# Altium schematic symbol library MTK_IC.SchLib: 1 symbol
Pins are listed as number, name and electrical type; pins without a type are passive.

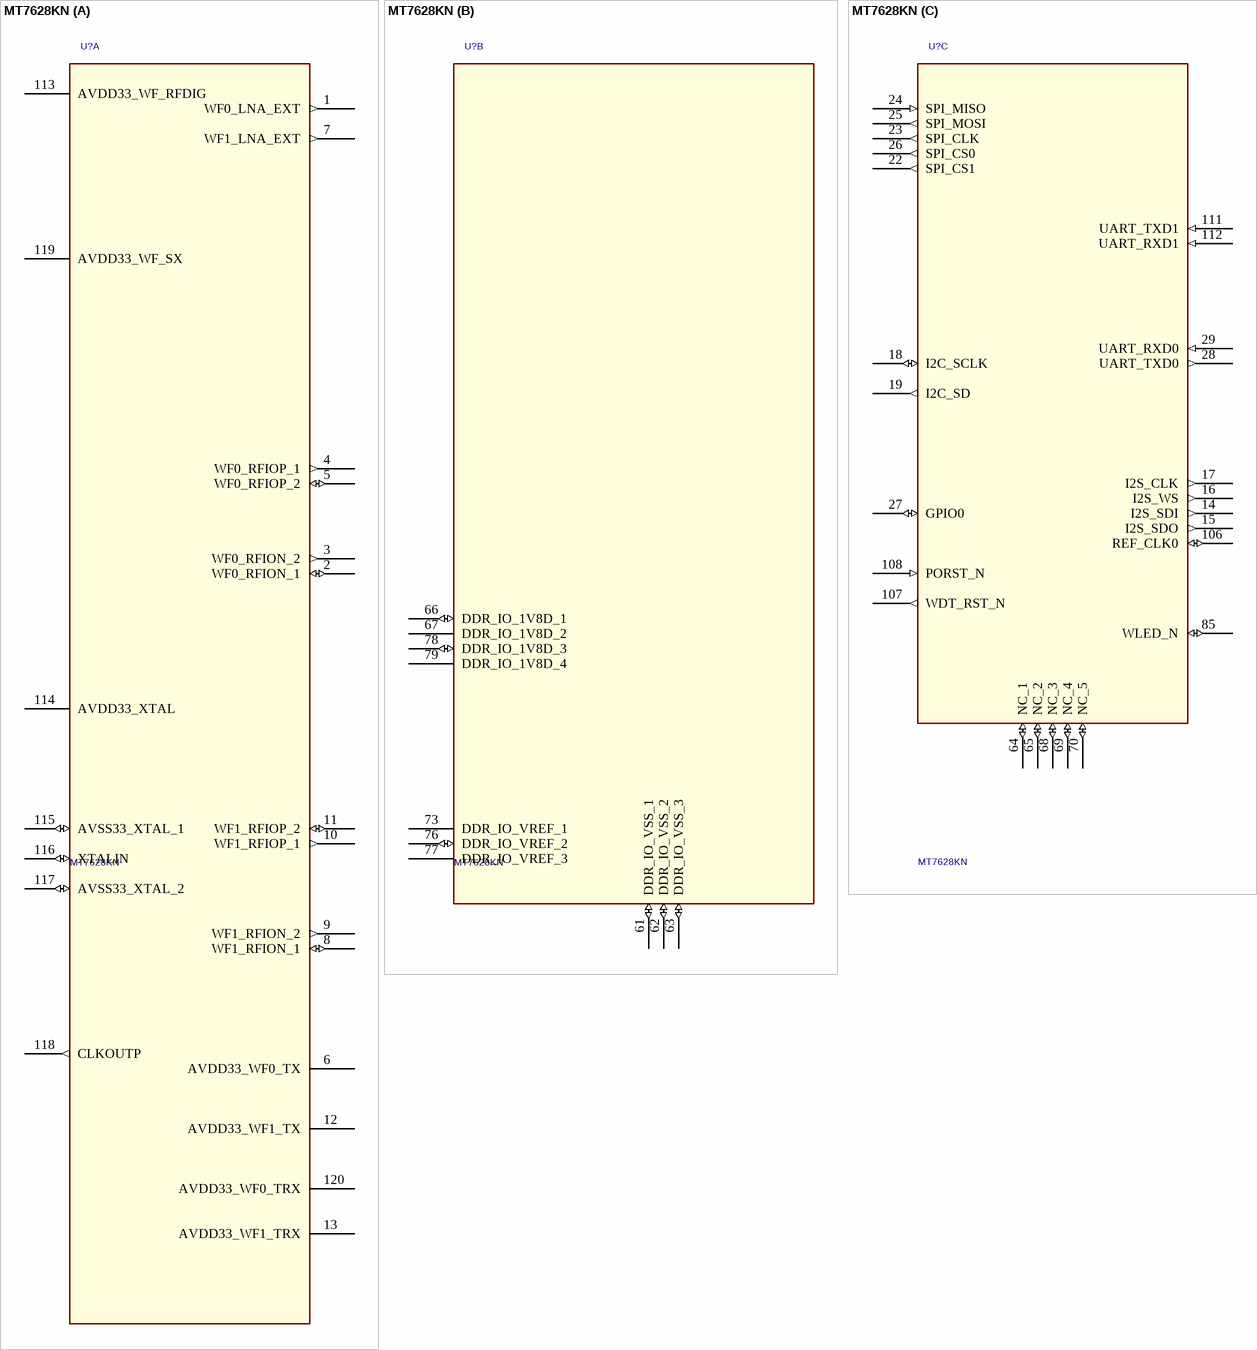
[diagram p0: symbol MT7628KN]

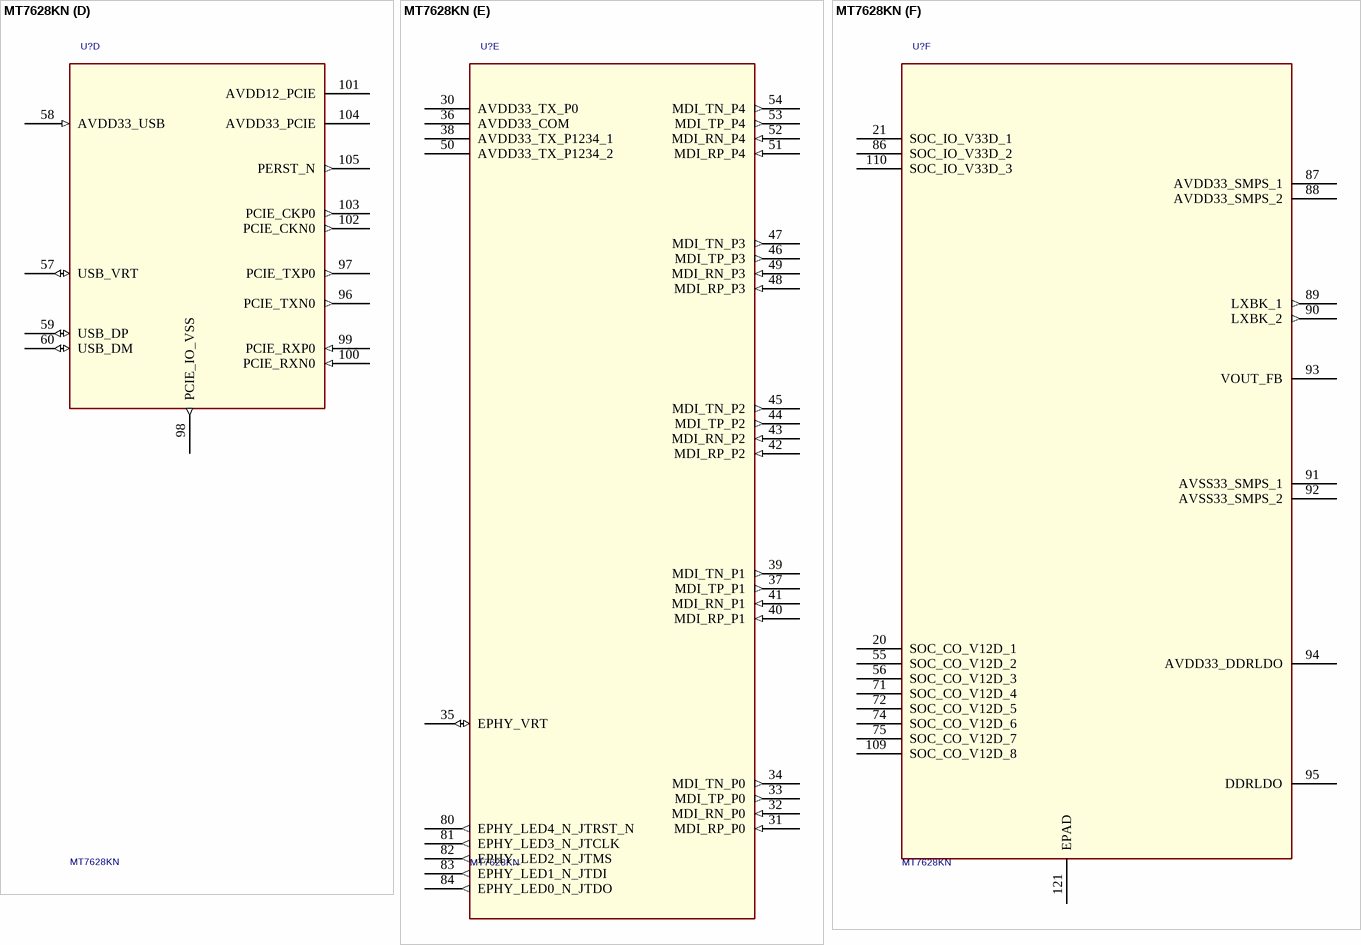
[diagram p1: symbol MT7628KN]

## MT7628KN
designator U?
footprint DR-QFN 10*10(PIN 120)
part A pins: 1 WF0_LNA_EXT (out), 2 WF0_RFION_1 (io), 3 WF0_RFION_2 (out), 4 WF0_RFIOP_1 (out), 5 WF0_RFIOP_2 (io), 6 AVDD33_WF0_TX (power), 7 WF1_LNA_EXT (out), 8 WF1_RFION_1 (io), 9 WF1_RFION_2 (out), 10 WF1_RFIOP_1 (out), 11 WF1_RFIOP_2 (io), 12 AVDD33_WF1_TX (power), 13 AVDD33_WF1_TRX (power), 113 AVDD33_WF_RFDIG (power), 114 AVDD33_XTAL (power), 115 AVSS33_XTAL_1 (io), 116 XTALIN (io), 117 AVSS33_XTAL_2 (io), 118 CLKOUTP (out), 119 AVDD33_WF_SX (power), 120 AVDD33_WF0_TRX (power)
part B pins: 61 DDR_IO_VSS_1 (io), 62 DDR_IO_VSS_2 (io), 63 DDR_IO_VSS_3 (io), 66 DDR_IO_1V8D_1 (io), 67 DDR_IO_1V8D_2 (power), 73 DDR_IO_VREF_1 (power), 76 DDR_IO_VREF_2 (io), 77 DDR_IO_VREF_3 (power), 78 DDR_IO_1V8D_3 (io), 79 DDR_IO_1V8D_4 (power)
part C pins: 14 I2S_SDI (out), 15 I2S_SDO (out), 16 I2S_WS (out), 17 I2S_CLK (out), 18 I2C_SCLK (io), 19 I2C_SD (out), 22 SPI_CS1 (out), 23 SPI_CLK (out), 24 SPI_MISO (in), 25 SPI_MOSI (out), 26 SPI_CS0 (out), 27 GPIO0 (io), 28 UART_TXD0 (out), 29 UART_RXD0 (in), 64 NC_1 (io), 65 NC_2 (io), 68 NC_3 (io), 69 NC_4 (io), 70 NC_5 (io), 85 WLED_N (io), 106 REF_CLK0 (io), 107 WDT_RST_N (out), 108 PORST_N (in), 111 UART_TXD1 (in), 112 UART_RXD1 (in)
part D pins: 57 USB_VRT (io), 58 AVDD33_USB (in), 59 USB_DP (io), 60 USB_DM (io), 96 PCIE_TXN0 (out), 97 PCIE_TXP0 (out), 98 PCIE_IO_VSS (out), 99 PCIE_RXP0 (in), 100 PCIE_RXN0 (in), 101 AVDD12_PCIE (power), 102 PCIE_CKN0 (out), 103 PCIE_CKP0 (out), 104 AVDD33_PCIE (power), 105 PERST_N (out)
part E pins: 30 AVDD33_TX_P0 (power), 31 MDI_RP_P0 (in), 32 MDI_RN_P0 (in), 33 MDI_TP_P0 (out), 34 MDI_TN_P0 (out), 35 EPHY_VRT (io), 36 AVDD33_COM (power), 37 MDI_TP_P1 (out), 38 AVDD33_TX_P1234_1 (power), 39 MDI_TN_P1 (out), 40 MDI_RP_P1 (in), 41 MDI_RN_P1 (in), 42 MDI_RP_P2 (in), 43 MDI_RN_P2 (in), 44 MDI_TP_P2 (out), 45 MDI_TN_P2 (out), 46 MDI_TP_P3 (out), 47 MDI_TN_P3 (out), 48 MDI_RP_P3 (in), 49 MDI_RN_P3 (in), 50 AVDD33_TX_P1234_2 (power), 51 MDI_RP_P4 (in), 52 MDI_RN_P4 (in), 53 MDI_TP_P4 (out), 54 MDI_TN_P4 (out), 80 EPHY_LED4_N_JTRST_N (out), 81 EPHY_LED3_N_JTCLK (out), 82 EPHY_LED2_N_JTMS (out), 83 EPHY_LED1_N_JTDI (out), 84 EPHY_LED0_N_JTDO (out)
part F pins: 20 SOC_CO_V12D_1 (power), 21 SOC_IO_V33D_1 (power), 55 SOC_CO_V12D_2 (power), 56 SOC_CO_V12D_3 (power), 71 SOC_CO_V12D_4 (power), 72 SOC_CO_V12D_5 (power), 74 SOC_CO_V12D_6 (power), 75 SOC_CO_V12D_7 (power), 86 SOC_IO_V33D_2 (power), 87 AVDD33_SMPS_1 (power), 88 AVDD33_SMPS_2 (power), 89 LXBK_1 (out), 90 LXBK_2 (out), 91 AVSS33_SMPS_1 (power), 92 AVSS33_SMPS_2 (power), 93 VOUT_FB (power), 94 AVDD33_DDRLDO (power), 95 DDRLDO (power), 109 SOC_CO_V12D_8 (power), 110 SOC_IO_V33D_3 (power), 121 EPAD (power)